# EAGLE library part MCP3425A0T-E (library voltageReg)
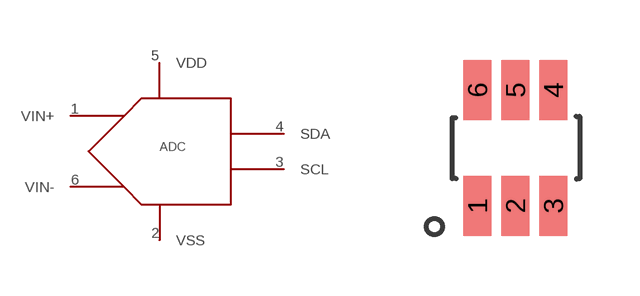
[diagram p0: symbol with the pads of SOT-23-6; footprint SOT-23-6]

Designator prefix -

## MCP3425A0T-E  [SOT-23-6]
1  VIN+
2  VSS
3  SCL
4  SDA
5  VDD
6  VIN-

## Footprint SOT-23-6 (pad centres in mm)
smd 0.7 x 1.5: 1 0,0; 2 0.95,0; 3 1.9,0; 4 1.9,2.9; 5 0.95,2.9; 6 0,2.9